# Altium integrated library MIC5225.IntLib: 1 symbol
Pins are listed as number, name and electrical type; pins without a type are passive.

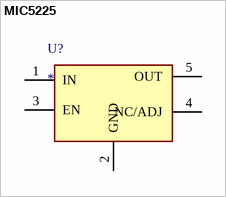
[diagram p0: symbol MIC5225]

## MIC5225
designator U?
Datasheet: https://www.mouser.com/datasheet/2/268/mic5225-778308.pdf
footprint MIC5225
pins: 1 IN, 2 GND, 3 EN, 4 NC/ADJ, 5 OUT